# EAGLE library part ABX00028 (library ABX00028)
ATmega4809 Arduino Nano Every AVR AVR MCU 8-Bit Embedded Evaluation Board Check availability <https://pricing.snapeda.com/parts/Arduino%20Nano%20Every/Arduino/view-part?ref=eda>
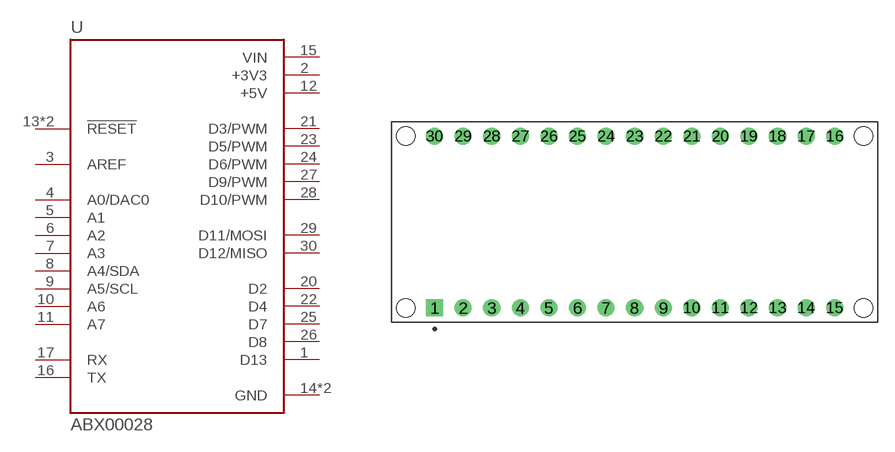
[diagram p0: symbol with the pads of MODULE_ABX00028; footprint MODULE_ABX00028]

Designator prefix U

## ABX00028 (Availability: In Stock; Description: Arduino’s 5V compatible board in the smallest available form factor: 45x18mm!; MF: Arduino; MP: Arduino Nano Every; Package: None; Price: None; Purchase-URL: https://pricing.snapeda.com/search/part/Arduino Nano Every/?ref=eda)  [MODULE_ABX00028]
1  D13
2  +3V3  pwr
3  AREF
4  A0/DAC0
5  A1
6  A2
7  A3
8  A4/SDA
9  A5/SCL
10  A6
11  A7
12  +5V  pwr
13  !RESET  in
14  GND  pwr
15  VIN  pwr
16  TX
17  RX
18  !RESET  in
19  GND  pwr
20  D2
21  D3/PWM
22  D4
23  D5/PWM
24  D6/PWM
25  D7
26  D8
27  D9/PWM
28  D10/PWM
29  D11/MOSI
30  D12/MISO

## Footprint MODULE_ABX00028 (pad centres in mm)
drill 1.016 square: 1 -17.78,-7.62
drill 1.016: 2 -15.24,-7.62; 3 -12.7,-7.62; 4 -10.16,-7.62; 5 -7.62,-7.62; 6 -5.08,-7.62; 7 -2.54,-7.62; 8 0,-7.62; 9 2.54,-7.62; 10 5.08,-7.62; 11 7.62,-7.62; 12 10.16,-7.62; 13 12.7,-7.62; 14 15.24,-7.62; 15 17.78,-7.62; 16 17.78,7.62; 17 15.24,7.62; 18 12.7,7.62; 19 10.16,7.62; 20 7.62,7.62; 21 5.08,7.62; 22 2.54,7.62; 23 0,7.62; 24 -2.54,7.62; 25 -5.08,7.62; 26 -7.62,7.62; 27 -10.16,7.62; 28 -12.7,7.62; 29 -15.24,7.62; 30 -17.78,7.62
hole 1.651 at -20.32,-7.62
hole 1.651 at -20.32,7.62
hole 1.651 at 20.32,7.62
hole 1.651 at 20.32,-7.62